# Altium footprint library thermostat.PcbLib: 112 footprints (part 3 of 7)
Each footprint in its own frame and in the unit in brackets; x right, y up, seen from the top. Pads: shape width x height; smd on the part's side, far side on the other; paste and mask are expansions set on the pad; w line width, h text height; cw(c..) or ccw(c..) is an arc to the next point about the centre after c.
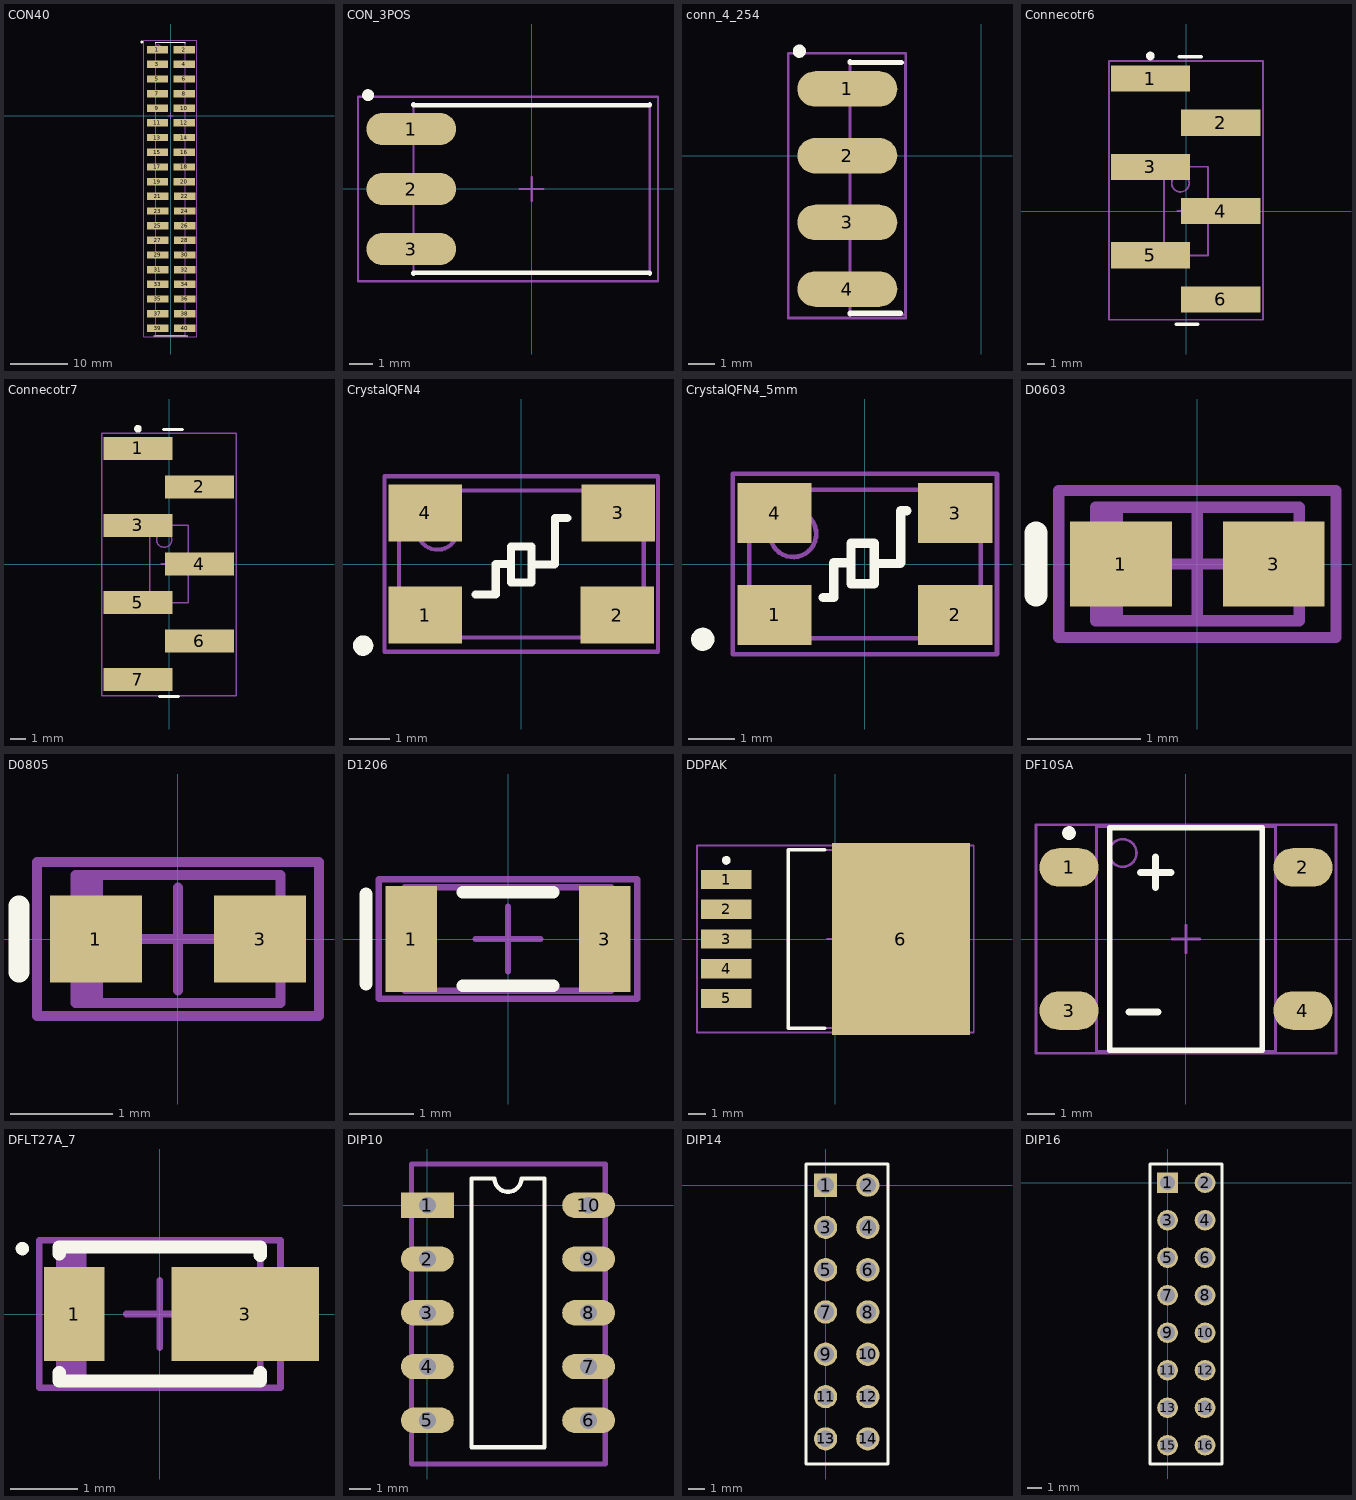
[diagram p2: the footprints below, top view; thin cyan lines are the x and y axes]

## CON40 [mm] "CONN FMALE 40POS DL .1\" GOLD SMD"
height 8
pads (40):
  rect 3.68x1.27 smd: 1(-2.285,11.42) 2(2.39,11.42) 3(-2.285,8.88) 4(2.39,8.88) 5(-2.285,6.34) 6(2.39,6.34) 7(-2.285,3.8) 8(2.39,3.8) 9(-2.285,1.26) 10(2.39,1.26) 11(-2.285,-1.28) 12(2.39,-1.28) 13(-2.285,-3.82) 14(2.39,-3.82) 15(-2.285,-6.36) 16(2.39,-6.36) 17(-2.285,-8.92) 18(2.39,-8.92) 19(-2.285,-11.46) 20(2.39,-11.46) 21(-2.235,-14.005) 22(2.44,-14.005) 23(-2.235,-16.545) 24(2.44,-16.545) 25(-2.235,-19.085) 26(2.44,-19.085) 27(-2.235,-21.625) 28(2.44,-21.625) 29(-2.235,-24.165) 30(2.44,-24.165) 31(-2.235,-26.705) 32(2.44,-26.705) 33(-2.235,-29.245) 34(2.44,-29.245) 35(-2.235,-31.785) 36(2.44,-31.785) 37(-2.235,-34.345) 38(2.44,-34.345) 39(-2.235,-36.885) 40(2.44,-36.885)
Top Overlay:
  circle w0.25: c-4.985,12.74 r0.125
  lines w0.2: -2.875,-38.175 0.1,-38.175 ; -2.56,12.565 -2.56,12.69 0.415,12.69 ; -0.435,12.69 2.54,12.69 2.54,12.565 ; 0.025,-38.175 3,-38.175
Mechanical 13:
  circle w0.1: c-2.2,11.74 r0.5
  lines w0.1: -2.55,-38.1 2.53,-38.1 2.53,12.69 -2.55,12.69 -2.55,-38.1
Mechanical 15:
  lines w0.1: -0.51,-0.01 0.49,-0.01 ; -0.01,-0.51 -0.01,0.49 ; -4.61,-38.35 4.565,-38.35 4.565,13.04 -4.61,13.04 -4.61,-38.35
3D body: height 7, standoff 0.1, extent -2.55,-38.175 2.53,12.69

## CON_3POS [mm] "3POS, 6-Leads, Body 7,1x10,0mm (max), Pitch 2,54mm, IPC High Density"
height 8
pads (3):
  oval 3.8x1.35 smd: 1(-5.1,2.54) 2(-5.1,0) 3(-5.1,-2.54)
Top Overlay:
  circle w0.25: c-6.925,3.975 r0.125
  lines w0.2: -5,-3.575 -5,-3.55 0.425,-3.55 ; -5,3.575 -5,3.55 0.425,3.55 ; -0.425,-3.55 5,-3.55 5,-3.575 ; -0.425,3.55 5,3.55 5,3.575
Mechanical 13:
  circle w0.1: c-5.8,2.59 r0.5
  lines w0.1: -5,-3.54 5,-3.54 5,3.54 -5,3.54 -5,-3.54
Mechanical 15:
  lines w0.1: -0.5,0 0.5,0 ; 0,-0.5 0,0.5 ; -7.35,-3.9 5.35,-3.9 5.35,3.9 -7.35,3.9 -7.35,-3.9
3D body: height 8, standoff 0.1, extent -5,-3.54 5,3.54

## conn_4_254 [mm]
height 1.5
pads (4):
  oval 3.8x1.35 smd: 1(-5.1,2.54) 2(-5.1,0) 3(-5.1,-2.54) 4(-5.1,-5.075)
Top Overlay:
  circle w0.25: c-6.925,3.975 r0.125
  lines w0.2: -5,-6.025 -5,-6 -3.075,-6 ; -5,3.575 -5,3.55 -3.05,3.55
Mechanical 13:
  circle w0.1: c-5.8,2.59 r0.5
  lines w0.1: -5,-6.05 -5,3.54 -2.9,3.54 -2.9,-6.05 -5,-6.05
Mechanical 15:
  lines w0.1: -7.35,-6.175 -7.35,3.9 -2.875,3.9 -2.875,-6.175 -7.35,-6.175
3D body: height 1.5, standoff 0, extent -5,-6.025 -2.925,3.54

## Connecotr6 [mm]
height 10
pads (6):
  rect 4.55x1.5 smd: 1(-2.05,7.62) 2(2,5.08) 3(-2.05,2.54) 4(2,0) 5(-2.05,-2.54) 6(2,-5.08)
Top Overlay:
  circle w0.25: c-2.05,8.92 r0.125
  lines w0.2: -0.575,-6.5 0.675,-6.5 ; -0.375,8.875 0.875,8.875
Mechanical 13:
  circle w0.1: c-0.32,1.6 r0.5
  lines w0.1: -1.27,-2.55 -1.27,2.55 1.27,2.55 1.27,-2.55 -1.27,-2.55
Mechanical 15:
  lines w0.1: -0.5,0 0.5,0 ; 0,-0.5 0,0.5 ; -4.425,-6.25 -4.425,8.625 4.425,8.625 4.425,-6.25 -4.425,-6.25
3D body: height 7, standoff 0.4, extent -1.27,-6.025 1.27,8.525

## Connecotr7 [mm]
height 10
pads (7):
  rect 4.55x1.5 smd: 1(-2.05,7.62) 2(2,5.08) 3(-2.05,2.54) 4(2,0) 5(-2.05,-2.54) 6(2,-5.08) 7(-2.05,-7.62)
Top Overlay:
  circle w0.25: c-2.05,8.92 r0.125
  lines w0.2: -0.625,-8.75 0.625,-8.75 ; -0.375,8.875 0.875,8.875
Mechanical 13:
  circle w0.1: c-0.32,1.6 r0.5
  lines w0.1: -1.27,-2.55 1.27,-2.55 1.27,2.55 -1.27,2.55 -1.27,-2.55
Mechanical 15:
  lines w0.1: -0.5,0 0.5,0 ; 0,-0.5 0,0.5 ; -4.425,-8.7 4.425,-8.7 4.425,8.625 -4.425,8.625 -4.425,-8.7
3D body: height 7, standoff 0.4, extent -1.27,-8.6 1.27,8.525

## CrystalQFN4 [mm] "QFN, 4-Leads, Body 3,6x6,0mm (max), Pitch 0,50mm, Pitch1 2,50mm, IPC High Density"
height 1.2
pads (4):
  rect 1.8x1.4 smd: 1(-2.35,-1.25) 2(2.35,-1.25) 3(2.375,1.25) 4(-2.35,1.25)
Top Overlay:
  circle w0.25: c-3.875,-2 r0.125
  lines w0.2: -1.125,-0.75 -0.625,-0.75 -0.625,0 -0.275,0 ; 0.25,-0.012 0.813,-0.012 0.825,0 0.825,1.125 1.125,1.125 ; -0.25,-0.45 -0.25,0.425 0.25,0.425 0.25,-0.45 -0.25,-0.45
Mechanical 13:
  circle w0.1: c-2.05,0.85 r0.5
  lines w0.1: -3,-1.8 -3,1.8 3,1.8 3,-1.8 -3,-1.8
Mechanical 15:
  lines w0.1: -3.35,-2.15 -3.35,2.15 3.35,2.15 3.35,-2.15 -3.35,-2.15
3D body: height 1.2, standoff 0.1, extent -3,-1.8 3,1.8

## CrystalQFN4_5mm [mm] "QFN, 4-Leads, Body 3,2x5,0mm (max), Pitch 0,50mm, Pitch1 2,20mm, IPC High Density"
height 0.85
pads (4):
  rect 1.6x1.3 smd: 1(-1.95,-1.1) 2(1.95,-1.1) 3(1.95,1.1) 4(-1.95,1.1)
Top Overlay:
  circle w0.25: c-3.5,-1.625 r0.125
  lines w0.2: -0.9,-0.725 -0.675,-0.725 -0.675,0.025 -0.325,0.025 ; 0.2,0.013 0.763,0.013 0.775,0.025 0.775,1.15 0.9,1.15 ; -0.3,-0.425 0.2,-0.425 0.2,0.45 -0.3,0.45 -0.3,-0.425
Mechanical 13:
  circle w0.1: c-1.55,0.65 r0.5
  lines w0.1: -2.5,-1.6 2.5,-1.6 2.5,1.6 -2.5,1.6 -2.5,-1.6
Mechanical 15:
  lines w0.1: -2.85,-1.95 2.85,-1.95 2.85,1.95 -2.85,1.95 -2.85,-1.95
3D body: height 0.85, standoff 0.1, extent -2.5,-1.6 2.5,1.6

## D0603 [mm] "Molded Diode, 2-Leads, Body 1,7x0,9mm, IPC High Density"
height 0.85
pads (2):
  rect 0.9x0.75 smd: 1(-0.675,0) 3(0.675,0)
Top Overlay:
  lines w0.2: -1.425,-0.275 -1.425,0.275
Mechanical 13:
  rectangle: -0.9,-0.5 -0.658,0.5
  lines w0.1: -0.9,-0.5 -0.9,0.5 0.9,0.5 0.9,-0.5 -0.9,-0.5
Mechanical 15:
  lines w0.1: -0.5,0 0.5,0 ; 0,-0.5 0,0.5 ; -1.225,-0.65 -1.225,0.65 1.225,0.65 1.225,-0.65 -1.225,-0.65
3D body: height 0.85, standoff 0, extent -0.9,-0.5 0.9,0.5

## D0805 [mm]
height 1.2
pads (2):
  rect 0.9x0.85 smd: 1(-0.8,0) 3(0.8,0)
Top Overlay:
  lines w0.2: -1.55,-0.325 -1.55,0.325
Mechanical 13:
  rectangle: -1,-0.625 -0.731,0.625
  lines w0.1: -1,-0.625 -1,0.625 1,0.625 1,-0.625 -1,-0.625
Mechanical 15:
  lines w0.1: -0.5,0 0.5,0 ; 0,-0.5 0,0.5 ; -1.375,-0.75 -1.375,0.75 1.375,0.75 1.375,-0.75 -1.375,-0.75
3D body: height 1.1, standoff 0, extent -1,-0.625 1,0.625

## D1206 [mm] "1206, 2-Leads, Body 3,2x1,6mm, IPC High Density"
height 0.5
pads (2):
  rect 0.8x1.65 smd: 1(-1.5,0) 3(1.5,0)
Top Overlay:
  lines w0.2: -2.2,-0.7 -2.2,0.7 ; -0.7,-0.725 0.7,-0.725 ; -0.7,0.725 0.7,0.725
Mechanical 13:
  lines w0.1: -1.6,-0.8 1.6,-0.8 1.6,0.8 -1.6,0.8 -1.6,-0.8
Mechanical 15:
  lines w0.1: -0.5,0 0.5,0 ; 0,-0.5 0,0.5 ; -2,-0.925 2,-0.925 2,0.925 -2,0.925 -2,-0.925
3D body: height 0.5, standoff 0, extent -1.6,-0.8 1.6,0.8

## DDPAK [mm] "D2-PAK, 6-Pads, Body 8,7x10,2mm (max), IPC Medium Density"
height 4.6
pads (6):
  rect 2.9x1.1 smd: 1(-6.25,3.4) 2(-6.25,1.7) 3(-6.25,0) 4(-6.25,-1.7) 5(-6.25,-3.4)
  rect 7.9x11 smd: 6(3.75,0)
Top Overlay:
  circle w0.25: c-6.25,4.5 r0.125
  lines w0.2: -0.6,-5.1 -2.7,-5.1 -2.7,5.1 -0.6,5.1
Mechanical 13:
  lines w0.1: -2.7,-5.1 -2.7,5.1 6,5.1 6,-5.1 -2.7,-5.1
Mechanical 15:
  lines w0.1: -0.5,0 0.5,0 ; 0,-0.5 0,0.5 ; -7.925,-5.35 -7.925,5.35 7.925,5.35 7.925,-5.35 -7.925,-5.35
3D body: height 4.6, standoff 0.4, extent -2.7,-5.1 6,5.1

## DF10SA [mm] "SOP, 4-Leads, Body 8,1x6,5mm (max), Pitch 5,20mm, IPC High Density"
height 3.3
pads (4):
  oval 2.15x1.4 smd: 1(-4.25,2.6) 2(4.25,2.6) 3(-4.25,-2.6) 4(4.25,-2.6)
Top Overlay:
  circle w0.25: c-4.25,3.85 r0.125
  lines w0.2: -2.775,-4.05 -2.775,4.05 2.775,4.05 2.775,-4.05 -2.775,-4.05
  lines w0.254: -2.075,-2.65 -1.025,-2.65 ; -1.65,2.425 -0.55,2.425 ; -1.1,1.875 -1.1,2.975
Mechanical 13:
  circle w0.1: c-2.3,3.125 r0.5
  lines w0.1: -3.25,-4.075 -3.25,4.075 3.25,4.075 3.25,-4.075 -3.25,-4.075
Mechanical 15:
  lines w0.1: -0.5,0 0.5,0 ; 0,-0.5 0,0.5 ; -5.45,-4.15 -5.45,4.15 5.45,4.15 5.45,-4.15 -5.45,-4.15
3D body: height 3.3, standoff 0.2, extent -3.25,-4.075 3.25,4.075

## DFLT27A_7 [mm] "Molded Diode, 2-Leads, Body 2,8x1,8mm, IPC High Density"
height 1
pads (2):
  rect 0.9x1.4 smd: 1(-1.275,0)
  rect 2.2x1.4 smd: 3(1.275,0)
Top Overlay:
  circle w0.1: c-2.05,0.975 r0.05
  lines w0.2: -1.5,-0.875 -1.5,-1 1.5,-1 1.5,-0.875 ; -1.5,0.9 -1.5,1 1.5,1 1.5,0.875
Mechanical 13:
  rectangle: -1.5,-0.965 -1.097,0.965
  lines w0.1: -1.5,-0.965 1.5,-0.965 1.5,0.965 -1.5,0.965 -1.5,-0.965
Mechanical 15:
  lines w0.1: -0.5,0 0.5,0 ; 0,-0.5 0,0.5 ; -1.8,-1.1 1.8,-1.1 1.8,1.1 -1.8,1.1 -1.8,-1.1
3D body: height 1, standoff 0, extent -1.5,-0.965 1.5,0.965

## DIP10 [mm]
pads (10):
  rect 2.5x1.2 hole 0.8: 1(0,0)
  oval 2.5x1.2 hole 0.8: 2(0,-2.54) 3(0,-5.08) 4(0,-7.62) 5(0,-10.16) 6(7.62,-10.16) 7(7.62,-7.62) 8(7.62,-5.08) 9(7.62,-2.54) 10(7.62,0)
Top Overlay:
  lines w0.2: 2.085,-11.43 5.535,-11.43 5.535,1.27 4.445,1.27 cw(c3.81,1.27) 3.175,1.27 2.085,1.27 2.085,-11.43
Mechanical 15:
  lines w0.254: 8.375,-12.225 -0.75,-12.225 -0.75,1.95 8.4,1.95 8.4,-12.225
3D body: height 5, standoff 0.1, extent -0.75,-12.225 8.4,1.95

## DIP14 [mm]
height 8
pads (14):
  rect 1.4x1.4 hole 1: 1(0,0)
  round 1.4 hole 1: 2(2.54,0) 3(0,-2.54) 4(2.54,-2.54) 5(0,-5.08) 6(2.54,-5.08) 7(0,-7.62) 8(2.54,-7.62) 9(0,-10.16) 10(2.54,-10.16) 11(0,-12.7) 12(2.54,-12.7) 13(0,-15.24) 14(2.54,-15.24)
Top Overlay:
  lines w0.2: 0.635,1.27 3.75,1.27 3.75,-16.75 -1.175,-16.75 -1.175,1.27 1.905,1.27
3D body: height 8.64, standoff 0.1, extent -0.744,-16.35 3.25,1

## DIP16 [mm]
height 8
pads (16):
  rect 1.4x1.4 hole 1: 1(0,0)
  round 1.4 hole 1: 2(2.54,0) 3(0,-2.54) 4(2.54,-2.54) 5(0,-5.08) 6(2.54,-5.08) 7(0,-7.62) 8(2.54,-7.62) 9(0,-10.16) 10(2.54,-10.16) 11(0,-12.7) 12(2.54,-12.7) 13(0,-15.24) 14(2.54,-15.24) 15(0,-17.78) 16(2.54,-17.78)
Top Overlay:
  lines w0.2: 0.635,1.27 3.675,1.27 3.675,-19.05 -1.175,-19.05 -1.175,1.27 1.905,1.27
3D body: height 8.64, standoff 0.1, extent -0.75,-18.75 3.25,1